# EAGLE library part MSP430G2553IN20 (library MSP430G2553IN20)
MSP430G2x53, MSP430G2x13 Mixed Signal Microcontroller 20-PDIP -40 to 85
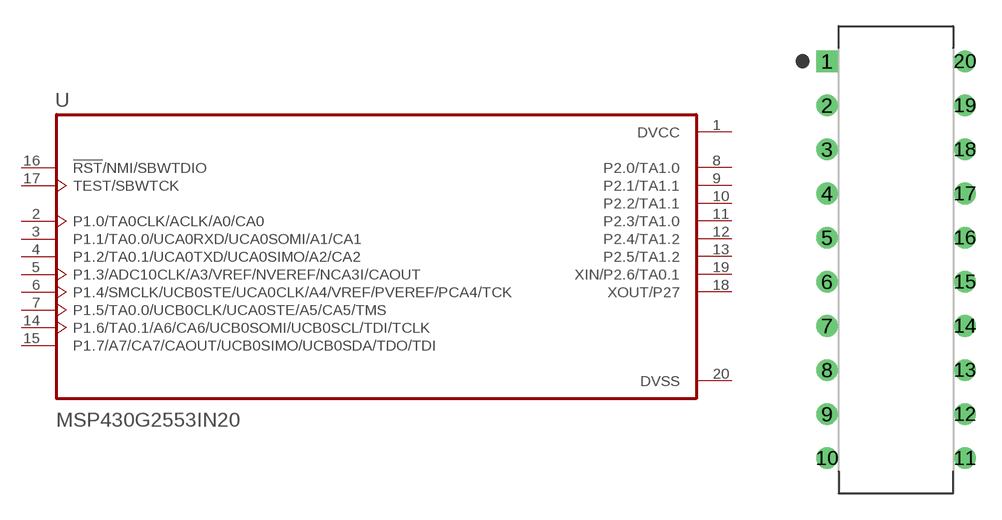
[diagram p0: symbol with the pads of DIP794W45P254L2692H508Q20; footprint DIP794W45P254L2692H508Q20]

Designator prefix U

## MSP430G2553IN20 (Availability: Unavailable; Description: MSP430G2x53, MSP430G2x13 Mixed Signal Microcontroller 20-PDIP -40 to 85; MF: Texas Instruments; MP: MSP430G2553IN20; Package: PDIP-20 Texas Instruments; Price: None)  [DIP794W45P254L2692H508Q20]
1  DVCC  pwr
2  P1.0/TA0CLK/ACLK/A0/CA0
3  P1.1/TA0.0/UCA0RXD/UCA0SOMI/A1/CA1
4  P1.2/TA0.1/UCA0TXD/UCA0SIMO/A2/CA2
5  P1.3/ADC10CLK/A3/VREF/NVEREF/NCA3I/CAOUT
6  P1.4/SMCLK/UCB0STE/UCA0CLK/A4/VREF/PVEREF/PCA4/TCK
7  P1.5/TA0.0/UCB0CLK/UCA0STE/A5/CA5/TMS
8  P2.0/TA1.0
9  P2.1/TA1.1
10  P2.2/TA1.1
11  P2.3/TA1.0
12  P2.4/TA1.2
13  P2.5/TA1.2
14  P1.6/TA0.1/A6/CA6/UCB0SOMI/UCB0SCL/TDI/TCLK
15  P1.7/A7/CA7/CAOUT/UCB0SIMO/UCB0SDA/TDO/TDI
16  !RST!/NMI/SBWTDIO  in
17  TEST/SBWTCK  in
18  XOUT/P27
19  XIN/P2.6/TA0.1
20  DVSS  pwr

## Footprint DIP794W45P254L2692H508Q20 (pad centres in mm)
drill 0.74 pad 1.14 square: 1 -3.97,11.43
drill 0.74 pad 1.14: 2 -3.97,8.89; 3 -3.97,6.35; 4 -3.97,3.81; 5 -3.97,1.27; 6 -3.97,-1.27; 7 -3.97,-3.81; 8 -3.97,-6.35; 9 -3.97,-8.89; 10 -3.97,-11.43; 11 3.97,-11.43; 12 3.97,-8.89; 13 3.97,-6.35; 14 3.97,-3.81; 15 3.97,-1.27; 16 3.97,1.27; 17 3.97,3.81; 18 3.97,6.35; 19 3.97,8.89; 20 3.97,11.43